# Altium footprint library Relay_F1CA005V_Omron.PcbLib: 1 footprints
Each footprint in its own frame and in the unit in brackets; x right, y up, seen from the top. Pads: shape width x height; smd on the part's side, far side on the other; paste and mask are expansions set on the pad; w line width, h text height; cw(c..) or ccw(c..) is an arc to the next point about the centre after c.
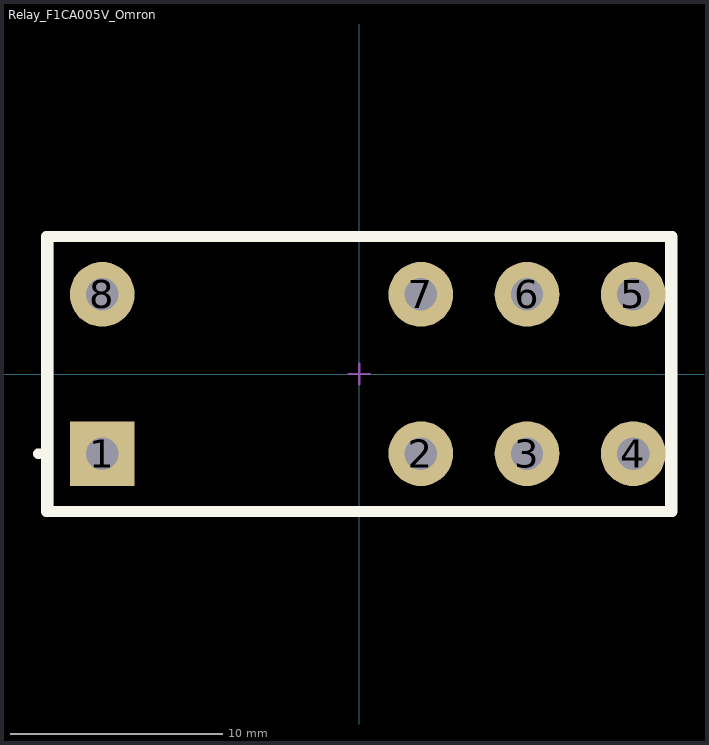
[diagram p0: the footprint, top view; thin cyan lines are the x and y axes]

## Relay_F1CA005V_Omron [mil]
pads (8):
  rect 120x120 hole 60 paste-39370.1 mask+0: 1(-476.38,-147.64)
  round 120 hole 60 paste-39370.1 mask+0: 2(114.17,-147.64) 3(311.02,-147.64) 4(507.87,-147.64) 5(507.87,147.64) 6(311.02,147.64) 7(114.17,147.64) 8(-476.38,147.64)
Top Overlay:
  circle w9.84: c-594.49,-147.64 r4.92
  lines w7.87: -570.87,-250 -570.87,250 570.87,250 570.87,-250 -570.87,-250
  lines w20: -580,-255 580,-255 580,255 -580,255 -580,-255
Top 3D Body:
  lines w7.87: -570.87,-250 -570.87,250 570.87,250 570.87,-250 -570.87,-250
Top Assembly:
  lines w7.87: -574.8,-253.94 -574.8,253.94 574.8,253.94 574.8,-253.94 -574.8,-253.94
  text ".Designator" at 0,7.39 h39.37
Top Component Center:
  lines w3.94: -19.68,0 19.68,0 ; 0,-19.68 0,19.68
Top Courtyard:
  lines w7.87: -574.8,-253.94 -574.8,253.94 574.8,253.94 574.8,-253.94 -574.8,-253.94
3D body "Relay_Omron_G2RL-14-E-DC12_eec.STEP": height 10, standoff 0, extent -574.8,-253.94 574.8,253.94